# Altium footprint library pld-intel.PCBLIB: 5 footprints
Each footprint in its own frame and in the unit in brackets; x right, y up, seen from the top. Pads: shape width x height; smd on the part's side, far side on the other; paste and mask are expansions set on the pad; w line width, h text height; cw(c..) or ccw(c..) is an arc to the next point about the centre after c.
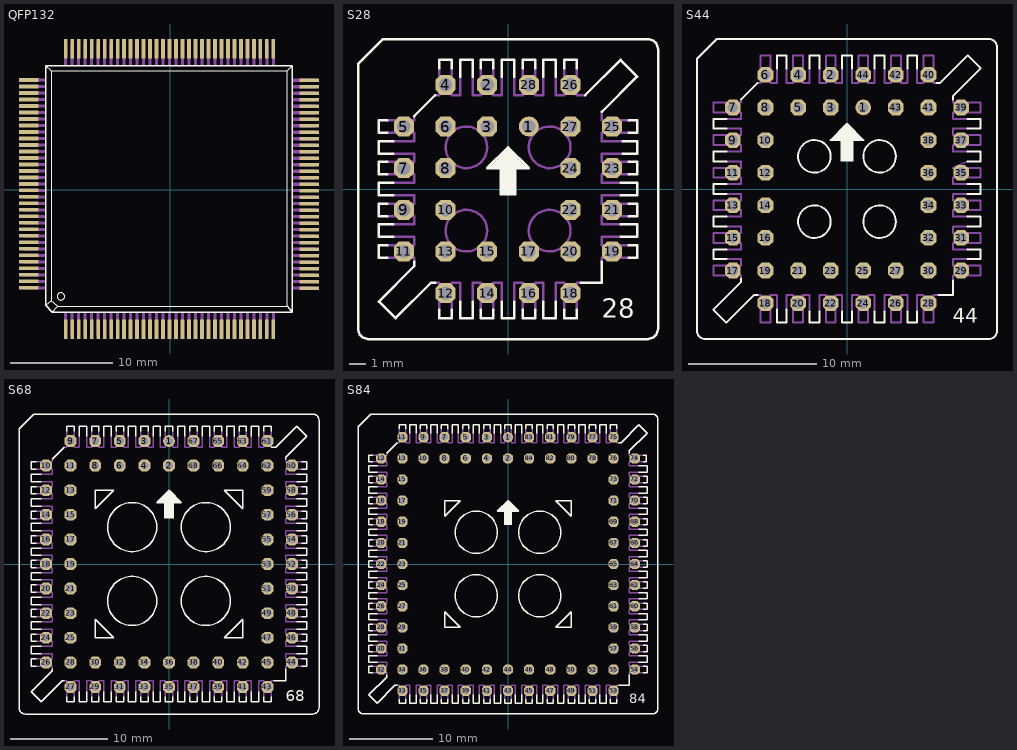
[diagram p0: the footprints below, top view; thin cyan lines are the x and y axes]

## QFP132 [mil]
pads (132):
  rect 14x75 smd: 1(-402,-537) 2(-377,-537) 3(-352,-537) 4(-327,-537) 5(-302,-537) 6(-277,-537) 7(-252,-537) 8(-227,-537) 9(-202,-537) 10(-177,-537) 11(-152,-537) 12(-127,-537) 13(-102,-537) 14(-77,-537) 15(-52,-537) 16(-27,-537) 17(-2,-537) 18(23,-537) 19(48,-537) 20(73,-537) 21(98,-537) 22(123,-537) 23(148,-537) 24(173,-537) 25(198,-537) 26(223,-537) 27(248,-537) 28(273,-537) 29(298,-537) 30(323,-537) 31(348,-537) 32(373,-537) 33(398,-537) 67(398,542) 68(373,542) 69(348,542) 70(323,542) 71(298,542) 72(273,542) 73(248,542) 74(223,542) 75(198,542) 76(173,542) 77(148,542) 78(123,542) 79(98,542) 80(73,542) 81(48,542) 82(23,542) 83(-2,542) 84(-27,542) 85(-52,542) 86(-77,542) 87(-102,542) 88(-127,542) 89(-152,542) 90(-177,542) 91(-202,542) 92(-227,542) 93(-252,542) 94(-277,542) 95(-302,542) 96(-327,542) 97(-352,542) 98(-377,542) 99(-402,542)
  rect 75x14 smd: 34(536,-379) 35(536,-354) 36(536,-329) 37(536,-304) 38(536,-279) 39(536,-254) 40(536,-229) 41(536,-204) 42(536,-179) 43(536,-154) 44(536,-129) 45(536,-104) 46(536,-79) 47(536,-54) 48(536,-29) 49(536,-4) 50(536,21) 51(536,46) 52(536,71) 53(536,96) 54(536,121) 55(536,146) 56(536,171) 57(536,196) 58(536,221) 59(536,246) 60(536,271) 61(536,296) 62(536,321) 63(536,346) 64(536,371) 65(536,396) 66(536,421) 100(-544,422) 101(-544,397) 102(-544,372) 103(-544,347) 104(-544,322) 105(-544,297) 106(-544,272) 107(-544,247) 108(-544,222) 109(-544,197) 110(-544,172) 111(-544,147) 112(-544,122) 113(-544,97) 114(-544,72) 115(-544,47) 116(-544,22) 117(-544,-3) 118(-544,-28) 119(-544,-53) 120(-544,-78) 121(-544,-103) 122(-544,-128) 123(-544,-153) 124(-544,-178) 125(-544,-203) 126(-544,-228) 127(-544,-253) 128(-544,-278) 129(-544,-303) 130(-544,-328) 131(-544,-353) 132(-544,-378)
Top Overlay:
  circle w2: c-420,-411 r14
  lines w2: -478,-445 -457,-428 ; -478,477 -457,457 ; -453,-472 -433,-449 ; 471,477 452,457 ; -457,-428 -457,457 ; -457,-428 -433,-449 ; -457,457 452,457 ; -433,-449 452,-449 452,457
  lines w6: 452,-449 471,-472 ; 471,-472 471,477 -478,477 -478,-445 -453,-472 471,-472
Mechanical 16:
  rectangle: 473,415 558,427
  rectangle: 473,390 558,402
  rectangle: 473,365 558,377
  rectangle: 473,340 558,352
  rectangle: 473,315 558,327
  rectangle: 473,290 558,302
  rectangle: 473,265 558,277
  rectangle: 473,240 558,252
  rectangle: 473,215 558,227
  rectangle: 473,190 558,202
  rectangle: 473,165 558,177
  rectangle: 473,140 558,152
  rectangle: 473,115 558,127
  rectangle: 473,90 558,102
  rectangle: 473,65 558,77
  rectangle: 473,40 558,52
  rectangle: 473,15 558,27
  rectangle: 473,-10 558,2
  rectangle: 473,-35 558,-23
  rectangle: 473,-60 558,-48
  rectangle: 473,-85 558,-73
  rectangle: 473,-110 558,-98
  rectangle: 473,-135 558,-123
  rectangle: 473,-160 558,-148
  rectangle: 473,-185 558,-173
  rectangle: 473,-210 558,-198
  rectangle: 473,-235 558,-223
  rectangle: 473,-260 558,-248
  rectangle: 473,-285 558,-273
  rectangle: 473,-310 558,-298
  rectangle: 473,-335 558,-323
  rectangle: 473,-360 558,-348
  rectangle: 473,-385 558,-373
  rectangle: 317,479 329,564
  rectangle: 292,479 304,564
  rectangle: 267,479 279,564
  rectangle: 242,479 254,564
  rectangle: 217,479 229,564
  rectangle: 192,479 204,564
  rectangle: 167,479 179,564
  rectangle: 142,479 154,564
  rectangle: 117,479 129,564
  rectangle: 92,479 104,564
  rectangle: 67,479 79,564
  rectangle: 42,479 54,564
  rectangle: 17,479 29,564
  rectangle: -8,479 4,564
  rectangle: -33,479 -21,564
  rectangle: -58,479 -46,564
  rectangle: -83,479 -71,564
  rectangle: -108,479 -96,564
  rectangle: -133,479 -121,564
  rectangle: -158,479 -146,564
  rectangle: -183,479 -171,564
  rectangle: -208,479 -196,564
  rectangle: -233,479 -221,564
  rectangle: -258,479 -246,564
  rectangle: -283,479 -271,564
  rectangle: -308,479 -296,564
  rectangle: -333,479 -321,564
  rectangle: -358,479 -346,564
  rectangle: -383,479 -371,564
  rectangle: -408,479 -396,564
  rectangle: 342,479 354,564
  rectangle: 367,479 379,564
  rectangle: 392,479 404,564
  rectangle: -565,416 -480,428
  rectangle: -565,391 -480,403
  rectangle: -565,366 -480,378
  rectangle: -565,341 -480,353
  rectangle: -565,316 -480,328
  rectangle: -565,291 -480,303
  rectangle: -565,266 -480,278
  rectangle: -565,241 -480,253
  rectangle: -565,216 -480,228
  rectangle: -565,191 -480,203
  rectangle: -565,166 -480,178
  rectangle: -565,141 -480,153
  rectangle: -565,116 -480,128
  rectangle: -565,91 -480,103
  rectangle: -565,66 -480,78
  rectangle: -565,41 -480,53
  rectangle: -565,16 -480,28
  rectangle: -565,-9 -480,3
  rectangle: -565,-34 -480,-22
  rectangle: -565,-59 -480,-47
  rectangle: -565,-84 -480,-72
  rectangle: -565,-109 -480,-97
  rectangle: -565,-134 -480,-122
  rectangle: -565,-159 -480,-147
  rectangle: -565,-184 -480,-172
  rectangle: -565,-209 -480,-197
  rectangle: -565,-234 -480,-222
  rectangle: -565,-259 -480,-247
  rectangle: -565,-284 -480,-272
  rectangle: -565,-309 -480,-297
  rectangle: -565,-334 -480,-322
  rectangle: -565,-359 -480,-347
  rectangle: -565,-384 -480,-372
  rectangle: 392,-559 404,-474
  rectangle: 367,-559 379,-474
  rectangle: 342,-559 354,-474
  rectangle: 317,-559 329,-474
  rectangle: 292,-559 304,-474
  rectangle: 267,-559 279,-474
  rectangle: 242,-559 254,-474
  rectangle: 217,-559 229,-474
  rectangle: 192,-559 204,-474
  rectangle: 167,-559 179,-474
  rectangle: 142,-559 154,-474
  rectangle: 117,-559 129,-474
  rectangle: 92,-559 104,-474
  rectangle: 67,-559 79,-474
  rectangle: 42,-559 54,-474
  rectangle: 17,-559 29,-474
  rectangle: -8,-559 4,-474
  rectangle: -33,-559 -21,-474
  rectangle: -58,-559 -46,-474
  rectangle: -83,-559 -71,-474
  rectangle: -108,-559 -96,-474
  rectangle: -133,-559 -121,-474
  rectangle: -158,-559 -146,-474
  rectangle: -183,-559 -171,-474
  rectangle: -208,-559 -196,-474
  rectangle: -233,-559 -221,-474
  rectangle: -258,-559 -246,-474
  rectangle: -283,-559 -271,-474
  rectangle: -308,-559 -296,-474
  rectangle: -333,-559 -321,-474
  rectangle: -358,-559 -346,-474
  rectangle: -383,-559 -371,-474
  rectangle: -408,-559 -396,-474

## S28 [mil]
pads (28):
  round 48 hole 32: 1(50,150)
  oct 48x48 hole 32: 2(-50,250) 3(-50,150) 4(-150,250) 5(-250,150) 6(-150,150) 7(-250,50) 8(-150,50) 9(-250,-50) 10(-150,-50) 11(-250,-150) 12(-150,-250) 13(-150,-150) 14(-50,-250) 15(-50,-150) 16(50,-250) 17(50,-150) 18(150,-250) 19(250,-150) 20(150,-150) 21(250,-50) 22(150,-50) 23(250,50) 24(150,50) 25(250,150) 26(150,250) 27(150,150) 28(50,250)
Top Overlay:
  rectangle: -20,-15 20,60
  rectangle: -35,50 35,65
  rectangle: -25,65 25,75
  rectangle: -15,75 15,85
  rectangle: -5,85 5,95
  rectangle: -45,50 -35,55
  rectangle: -40,55 -35,60
  rectangle: -30,65 -25,70
  rectangle: -20,75 -15,80
  rectangle: -10,85 -5,90
  rectangle: 5,85 10,90
  rectangle: 15,75 20,80
  rectangle: 25,65 30,70
  rectangle: 35,50 45,55
  rectangle: 35,55 40,60
  lines w6: -290,-165 -310,-165 -310,-135 -290,-135 ; -290,-65 -310,-65 -310,-35 -290,-35 ; -290,35 -310,35 -310,65 -290,65 ; -290,135 -310,135 -310,165 -290,165 ; -275,-115 -310,-115 -310,-85 -275,-85 ; -275,-15 -310,-15 -310,15 -275,15 ; -275,85 -310,85 -310,115 -275,115 ; -225,-175 -225,-185 -310,-270 -270,-310 -185,-225 -175,-225 ; -225,175 -175,225 ; -165,-290 -165,-310 -135,-310 -135,-290 ; -165,290 -165,310 -135,310 -135,290 ; -115,-270 -115,-310 -85,-310 -85,-270 ; -115,270 -115,310 -85,310 -85,270 ; -65,-290 -65,-310 -35,-310 -35,-290 ; -65,290 -65,310 -35,310 -35,290 ; -15,-270 -15,-310 15,-310 15,-270 ; -15,270 -15,310 15,310 15,270 ; 35,-290 35,-310 65,-310 65,-290 ; 35,290 35,310 65,310 65,290 ; 85,-270 85,-310 115,-310 115,-270 ; 85,270 85,310 115,310 115,270 ; 135,-290 135,-310 165,-310 165,-290 ; 135,290 135,310 165,310 165,290 ; 175,-225 225,-225 225,-175 ; 185,225 270,310 310,270 225,185 ; 270,-115 310,-115 310,-85 270,-85 ; 270,-15 310,-15 310,15 270,15 ; 275,85 310,85 310,115 275,115 ; 290,-165 310,-165 310,-135 290,-135 ; 290,-65 310,-65 310,-35 290,-35 ; 290,35 310,35 310,65 290,65 ; 290,135 310,135 310,165 290,165 ; -360,-335 -360,300 -300,360 335,360 cw(c335,335) 360,335 360,-335 cw(c335,-335) 335,-360 -335,-360 cw(c-335,-335) -360,-335 ; -50,50 50,50 0,100 -50,50
  text "28" at 225,-325 h77.5
Mechanical 16:
  circle w6: c-100,100 r50
  circle w6: c100,100 r50
  circle w6: c-100,-100 r50
  circle w6: c100,-100 r50
  lines w6: -290,-165 -225,-165 -225,-175 ; -290,-135 -225,-135 -225,-115 -275,-115 ; -290,-65 -225,-65 -225,-85 -275,-85 ; -290,-35 -225,-35 -225,-15 -275,-15 ; -290,35 -225,35 -225,15 -275,15 ; -290,65 -225,65 -225,85 -275,85 ; -290,135 -225,135 -225,115 -275,115 ; -290,165 -225,165 -225,175 ; -175,-225 -165,-225 -165,-290 ; -175,225 -165,225 -165,290 ; -135,-290 -135,-225 -115,-225 -115,-270 ; -135,290 -135,225 -115,225 -115,270 ; -85,-270 -85,-225 -65,-225 -65,-290 ; -85,270 -85,225 -65,225 -65,290 ; -35,-290 -35,-225 -15,-225 -15,-270 ; -35,290 -35,225 -15,225 -15,270 ; 15,-270 15,-225 35,-225 35,-290 ; 15,270 15,225 35,225 35,290 ; 65,-290 65,-225 85,-225 85,-270 ; 65,290 65,225 85,225 85,270 ; 115,-270 115,-225 135,-225 135,-290 ; 115,270 115,225 135,225 135,290 ; 165,-290 165,-225 175,-225 ; 165,290 165,225 185,225 ; 225,-175 225,-165 290,-165 ; 225,185 225,165 290,165 ; 270,-115 225,-115 225,-135 290,-135 ; 270,-85 225,-85 225,-65 290,-65 ; 270,-15 225,-15 225,-35 290,-35 ; 270,15 225,15 225,35 290,35 ; 275,85 225,85 225,65 290,65 ; 275,115 225,115 225,135 290,135

## S44 [mil]
pads (44):
  round 48 hole 32: 1(50,250)
  oct 48x48 hole 32: 2(-50,350) 3(-50,250) 4(-150,350) 5(-150,250) 6(-250,350) 7(-350,250) 8(-250,250) 9(-350,150) 10(-250,150) 11(-350,50) 12(-250,50) 13(-350,-50) 14(-250,-50) 15(-350,-150) 16(-250,-150) 17(-350,-250) 18(-250,-350) 19(-250,-250) 20(-150,-350) 21(-150,-250) 22(-50,-350) 23(-50,-250) 24(50,-350) 25(50,-250) 26(150,-350) 27(150,-250) 28(250,-350) 29(350,-250) 30(250,-250) 31(350,-150) 32(250,-150) 33(350,-50) 34(250,-50) 35(350,50) 36(250,50) 37(350,150) 38(250,150) 39(350,250) 40(250,350) 41(250,250) 42(150,350) 43(150,250) 44(50,350)
Top Overlay:
  circle w6: c-100,100 r50
  circle w6: c100,100 r50
  circle w6: c-100,-100 r50
  circle w6: c100,-100 r50
  rectangle: -20,85 20,160
  rectangle: -35,150 35,165
  rectangle: -25,165 25,175
  rectangle: -15,175 15,185
  rectangle: -5,185 5,195
  rectangle: -45,150 -35,155
  rectangle: -40,155 -35,160
  rectangle: -30,165 -25,170
  rectangle: -20,175 -15,180
  rectangle: -10,185 -5,190
  rectangle: 5,185 10,190
  rectangle: 15,175 20,180
  rectangle: 25,165 30,170
  rectangle: 35,150 45,155
  rectangle: 35,155 40,160
  lines w6: -370,-215 -410,-215 -410,-185 -370,-185 ; -370,-115 -410,-115 -410,-85 -370,-85 ; -370,-15 -410,-15 -410,15 -370,15 ; -370,85 -410,85 -410,115 -370,115 ; -370,185 -410,185 -410,215 -370,215 ; -325,-275 -325,-285 -410,-370 -370,-410 -285,-325 -275,-325 ; -325,275 -275,325 ; -215,-370 -215,-410 -185,-410 -185,-370 ; -215,370 -215,410 -185,410 -185,370 ; -115,-375 -115,-410 -85,-410 -85,-375 ; -115,370 -115,410 -85,410 -85,370 ; -15,-375 -15,-410 15,-410 15,-375 ; -15,370 -15,410 15,410 15,370 ; 85,-375 85,-410 115,-410 115,-375 ; 85,370 85,410 115,410 115,370 ; 185,-375 185,-410 215,-410 215,-375 ; 185,370 185,410 215,410 215,370 ; 275,325 285,325 370,410 410,370 325,285 325,275 ; 280,-325 325,-325 325,-280 ; 370,-215 410,-215 410,-185 370,-185 ; 370,-115 410,-115 410,-85 370,-85 ; 370,-15 410,-15 410,15 370,15 ; 370,85 410,85 410,115 370,115 ; 370,185 410,185 410,215 370,215 ; -460,-435 -460,400 -400,460 435,460 cw(c435,435) 460,435 460,-435 cw(c435,-435) 435,-460 -435,-460 cw(c-435,-435) -460,-435 ; -50,150 50,150 0,200 -50,150
  text "44" at 325,-425 h77.5
Mechanical 16:
  drawing of 159 lines, arcs and shapes, not listed

## S68 [mil]
pads (68):
  round 48 hole 32: 1(0,500)
  oct 48x48 hole 32: 2(0,400) 3(-100,500) 4(-100,400) 5(-200,500) 6(-200,400) 7(-300,500) 8(-300,400) 9(-400,500) 10(-500,400) 11(-400,400) 12(-500,300) 13(-400,300) 14(-500,200) 15(-400,200) 16(-500,100) 17(-400,100) 18(-500,0) 19(-400,0) 20(-500,-100) 21(-400,-100) 22(-500,-200) 23(-400,-200) 24(-500,-300) 25(-400,-300) 26(-500,-400) 27(-400,-500) 28(-400,-400) 29(-300,-500) 30(-300,-400) 31(-200,-500) 32(-200,-400) 33(-100,-500) 34(-100,-400) 35(0,-500) 36(0,-400) 37(100,-500) 38(100,-400) 39(200,-500) 40(200,-400) 41(300,-500) 42(300,-400) 43(400,-500) 44(500,-400) 45(400,-400) 46(500,-300) 47(400,-300) 48(500,-200) 49(400,-200) 50(500,-100) 51(400,-100) 52(500,0) 53(400,0) 54(500,100) 55(400,100) 56(500,200) 57(400,200) 58(500,300) 59(400,300) 60(500,400) 61(400,500) 62(400,400) 63(300,500) 64(300,400) 65(200,500) 66(200,400) 67(100,500) 68(100,400)
Top Overlay:
  drawing of 259 lines, arcs and shapes, not listed
  text "68" at 475,-575 h77.5
Mechanical 16:
  drawing of 207 lines, arcs and shapes, not listed

## S84 [mil]
pads (84):
  round 48 hole 32: 1(0,600)
  oct 48x48 hole 32: 2(0,500) 3(-100,600) 4(-100,500) 5(-200,600) 6(-200,500) 7(-300,600) 8(-300,500) 9(-400,600) 10(-400,500) 11(-500,600) 12(-600,500) 13(-500,500) 14(-600,400) 15(-500,400) 16(-600,300) 17(-500,300) 18(-600,200) 19(-500,200) 20(-600,100) 21(-500,100) 22(-600,0) 23(-500,0) 24(-600,-100) 25(-500,-100) 26(-600,-200) 27(-500,-200) 28(-600,-300) 29(-500,-300) 30(-600,-400) 31(-500,-400) 32(-600,-500) 33(-500,-600) 34(-500,-500) 35(-400,-600) 36(-400,-500) 37(-300,-600) 38(-300,-500) 39(-200,-600) 40(-200,-500) 41(-100,-600) 42(-100,-500) 43(0,-600) 44(0,-500) 45(100,-600) 46(100,-500) 47(200,-600) 48(200,-500) 49(300,-600) 50(300,-500) 51(400,-600) 52(400,-500) 53(500,-600) 54(600,-500) 55(500,-500) 56(600,-400) 57(500,-400) 58(600,-300) 59(500,-300) 60(600,-200) 61(500,-200) 62(600,-100) 63(500,-100) 64(600,0) 65(500,0) 66(600,100) 67(500,100) 68(600,200) 69(500,200) 70(600,300) 71(500,300) 72(600,400) 73(500,400) 74(600,500) 75(500,600) 76(500,500) 77(400,600) 78(400,500) 79(300,600) 80(300,500) 81(200,600) 82(200,500) 83(100,600) 84(100,500)
Top Overlay:
  drawing of 307 lines, arcs and shapes, not listed
  text "84" at 575,-675 h77.5
Mechanical 16:
  drawing of 256 lines, arcs and shapes, not listed